# EAGLE library part TPNUP4114 (library LARS_409_DIODE)
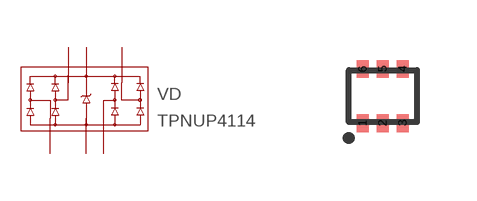
[diagram p1: symbol with the pads of SOT-563; footprint SOT-563]

Designator prefix VD

## TPNUP4114  [SOT-563]
1  I/O1
2  GND
3  I/O2
4  I/O3
5  VCC
6  I/O4

## Footprint SOT-563 (pad centres in mm)
smd 0.3 x 0.45: 1 -0.5,-0.675; 2 0,-0.675; 3 0.5,-0.675; 4 0.5,0.675; 5 0,0.675; 6 -0.5,0.675